# EAGLE library part UBLOXUC530 (library uc530)
Ublox 530m integrated GPS receiver and chip antenna
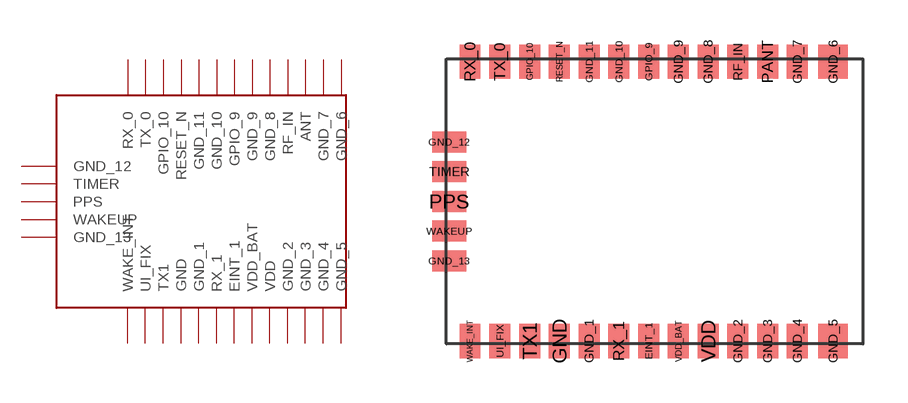
[diagram p0: symbol with the pads of UBLOXUC530; footprint UBLOXUC530]

Designator prefix -

## UBLOXUC530  [UBLOXUC530]
EINT_1  EINT_1
GND  GND
GND_1  GND_1
GND_2  GND_2
GND_3  GND_3
GND_4  GND_4
GND_5  GND_5
GND_6  GND_6
GND_7  GND_7
GND_8  GND_8
GND_9  GND_9  nc
GND_10  GND_10
GND_11  GND_11
GND_12  GND_12
GND_13  GND_13
GPIO_9  GPIO_9
GPIO_10  GPIO_10
PANT  ANT
PPS  PPS
RESET_N  RESET_N
RF_IN  RF_IN
RX_0  RX_0
RX_1  RX_1
TIMER  TIMER
TX1  TX1
TX_0  TX_0
UI_FIX  UI_FIX
VDD  VDD
VDD_BAT  VDD_BAT  nc
WAKE_INT  WAKE_INT
WAKEUP  WAKEUP

## Footprint UBLOXUC530 (pad centres in mm)
smd 0.7 x 1.15: EINT_1 6.8,0.1; GND 3.8,0.1; GND_1 4.8,0.1; GND_2 9.8,0.1; GND_3 10.8,0.1; GND_4 11.8,0.1; GND_7 11.8,9.5; GND_8 8.8,9.5; GND_9 7.8,9.5; GND_10 5.8,9.5; GND_11 4.8,9.5; GPIO_9 6.8,9.5; GPIO_10 2.8,9.5; PANT 10.8,9.5; RESET_N 3.8,9.5; RF_IN 9.8,9.5; RX_0 0.8,9.5; RX_1 5.8,0.1; TX1 2.8,0.1; TX_0 1.8,9.5; UI_FIX 1.8,0.1; VDD 8.8,0.1; VDD_BAT 7.8,0.1; WAKE_INT 0.8,0.1
smd 1 x 1.15: GND_5 13,0.1; GND_6 13,9.5
smd 1.15 x 0.7: GND_12 0.1,6.8; GND_13 0.1,2.8; PPS 0.1,4.8; TIMER 0.1,5.8; WAKEUP 0.1,3.8